# EAGLE library part WE-TPB_HV_4XL (library WE-TPB_HV)
WE-TPB HV Three-Phase Common Mode Power Line Choke Characteristics Application up to 760 VAC High permeability MnZn Ferrite or nanocrystalline core material Improved insulation through plastic case and winding spacer Patented design Specification according to EN 60938-2 Air and creepage distances ≥ 7 mm Rated current up to 46 A Attenuation up to 60 dB Suppression frequency range: 1 kHz to 20 MHz depending from used core material Operating temperature: -40 °C to +125 °C Flammability corresponding to UL 94 V-0 Climatic category: 40/125/21 Applications Power electronics Power line input filter Radio interference suppression in motors Suppression for common mode noise Frequency converter Power supplies Charging stations <https://katalog.we-online.com/media/images/v2/o84833v209%20Family_WE-TPBHV.jpg> Details see: https://katalog.we-online.com/en/pbs/WE-TPBHV Updated by Ella Wu 2019-5-31 2019 (C) Wurth Elektronik
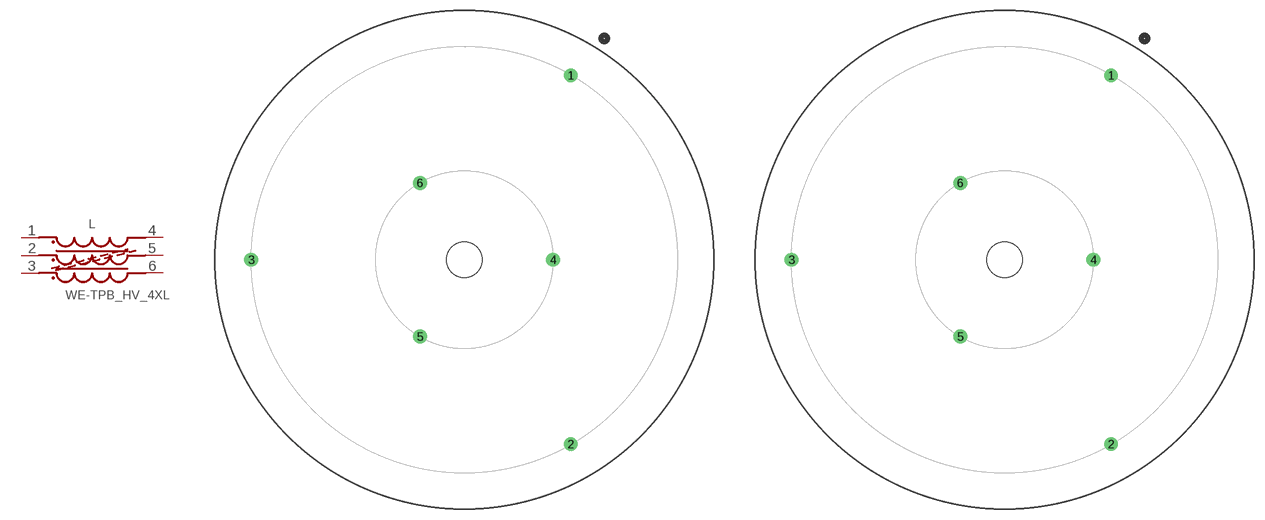
[diagram p0: symbol with the pads of WE-TPB_HV_4XL_744835150072; footprints WE-TPB_HV_4XL_744835150072, WE-TPB_HV_4XL_744839208072]

Designator prefix L

## WE-TPB_HV_4XL_744835150072 (DATASHEET-URL: https://katalog.we-online.com/pbs/datasheet/744835150072.pdf; IR: 7.2A; MOUNT: THT; PART-NUMBER: 744835150072; RDC: 85mOhm; VALUE: 15mH; VR: 760 V (AC); VT: 3000 V (AC))  [WE-TPB_HV_4XL_744835150072]
1  1  pas
2  2  pas
3  3  pas
4  4  pas
5  5  pas
6  6  pas

## WE-TPB_HV_4XL_744839208072 (DATASHEET-URL: https://katalog.we-online.com/pbs/datasheet/744839208072.pdf; IR: 7.2A; MOUNT: THT; PART-NUMBER: 744839208072; RDC: 85mOhm; VALUE: 208mH; VR: 760 V (AC); VT: 3000 V (AC))  [WE-TPB_HV_4XL_744839208072]
Pads as for WE-TPB_HV_4XL_744835150072

## WE-TPB_HV_4XL_744835090095 (DATASHEET-URL: https://katalog.we-online.com/pbs/datasheet/744835090095.pdf; IR: 9.5A; MOUNT: THT; PART-NUMBER: 744835090095; RDC: 47mOhm; VALUE: 9mH; VR: 760 V (AC); VT: 3000 V (AC))  [WE-TPB_HV_4XL_744835090095]
Pads as for WE-TPB_HV_4XL_744835150072

## WE-TPB_HV_4XL_744838480095 (DATASHEET-URL: https://katalog.we-online.com/pbs/datasheet/744838480095.pdf; IR: 9.5A; MOUNT: THT; PART-NUMBER: 744838480095; RDC: 47mOhm; VALUE: 48mH; VR: 760 V (AC); VT: 3000 V (AC))  [WE-TPB_HV_4XL_744838480095]
Pads as for WE-TPB_HV_4XL_744835150072

## WE-TPB_HV_4XL_744839125095 (DATASHEET-URL: https://katalog.we-online.com/pbs/datasheet/744839125095.pdf; IR: 9.5A; MOUNT: THT; PART-NUMBER: 744839125095; RDC: 47mOhm; VALUE: 125mH; VR: 760 V (AC); VT: 3000 V (AC))  [WE-TPB_HV_4XL_744839125095]
Pads as for WE-TPB_HV_4XL_744835150072

## WE-TPB_HV_4XL_744835050135 (DATASHEET-URL: https://katalog.we-online.com/pbs/datasheet/744835050135.pdf; IR: 13.5A; MOUNT: THT; PART-NUMBER: 744835050135; RDC: 23mOhm; VALUE: 5mH; VR: 760 V (AC); VT: 3000 V (AC))  [WE-TPB_HV_4XL_744835050135]
Pads as for WE-TPB_HV_4XL_744835150072

## WE-TPB_HV_4XL_744835034160 (DATASHEET-URL: https://katalog.we-online.com/pbs/datasheet/744835034160.pdf; IR: 16A; MOUNT: THT; PART-NUMBER: 744835034160; RDC: 14mOhm; VALUE: 3.4mH; VR: 760 V (AC); VT: 3000 V (AC))  [WE-TPB_HV_4XL_744835034160]
Pads as for WE-TPB_HV_4XL_744835150072

## WE-TPB_HV_4XL_744838180160 (DATASHEET-URL: https://katalog.we-online.com/pbs/datasheet/744838180160.pdf; IR: 16A; MOUNT: THT; PART-NUMBER: 744838180160; RDC: 14mOhm; VALUE: 18mH; VR: 760 V (AC); VT: 3000 V (AC))  [WE-TPB_HV_4XL_744838180160]
Pads as for WE-TPB_HV_4XL_744835150072

## WE-TPB_HV_4XL_744839047160 (DATASHEET-URL: https://katalog.we-online.com/pbs/datasheet/744839047160.pdf; IR: 16A; MOUNT: THT; PART-NUMBER: 744839047160; RDC: 14mOhm; VALUE: 47mH; VR: 760 V (AC); VT: 3000 V (AC))  [WE-TPB_HV_4XL_744839047160]
Pads as for WE-TPB_HV_4XL_744835150072

## WE-TPB_HV_4XL_744835021220 (DATASHEET-URL: https://katalog.we-online.com/pbs/datasheet/744835021220.pdf; IR: 22A; MOUNT: THT; PART-NUMBER: 744835021220; RDC: 9mOhm; VALUE: 2.1mH; VR: 760 V (AC); VT: 3000 V (AC))  [WE-TPB_HV_4XL_744835021220]
Pads as for WE-TPB_HV_4XL_744835150072

## WE-TPB_HV_4XL_744837018220 (DATASHEET-URL: https://katalog.we-online.com/pbs/datasheet/744837018220.pdf; IR: 22A; MOUNT: THT; PART-NUMBER: 744837018220; RDC: 9mOhm; VALUE: 1.8mH; VR: 760 V (AC); VT: 3000 V (AC))  [WE-TPB_HV_4XL_744837018220]
Pads as for WE-TPB_HV_4XL_744835150072

## WE-TPB_HV_4XL_744839029220 (DATASHEET-URL: https://katalog.we-online.com/pbs/datasheet/744839029220.pdf; IR: 22A; MOUNT: THT; PART-NUMBER: 744839029220; RDC: 9mOhm; VALUE: 29mH; VR: 760 V (AC); VT: 3000 V (AC))  [WE-TPB_HV_4XL_744839029220]
Pads as for WE-TPB_HV_4XL_744835150072

## WE-TPB_HV_4XL_744838040400 (DATASHEET-URL: https://katalog.we-online.com/pbs/datasheet/744838040400.pdf; IR: 40A; MOUNT: THT; PART-NUMBER: 744838040400; RDC: 3.2mOhm; VALUE: 4mH; VR: 760 V (AC); VT: 3000 V (AC))  [WE-TPB_HV_4XL_744838040400]
Pads as for WE-TPB_HV_4XL_744835150072

## WE-TPB_HV_4XL_744839010400 (DATASHEET-URL: https://katalog.we-online.com/pbs/datasheet/744839010400.pdf; IR: 40A; MOUNT: THT; PART-NUMBER: 744839010400; RDC: 3.2mOhm; VALUE: 10.5mH; VR: 760 V (AC); VT: 3000 V (AC))  [WE-TPB_HV_4XL_744839010400]
Pads as for WE-TPB_HV_4XL_744835150072

## WE-TPB_HV_4XL_744839003460 (DATASHEET-URL: https://katalog.we-online.com/pbs/datasheet/744839003460.pdf; IR: 46A; MOUNT: THT; PART-NUMBER: 744839003460; RDC: 1.6mOhm; VALUE: 3mH; VR: 760 V (AC); VT: 3000 V (AC))  [WE-TPB_HV_4XL_744839003460]
Pads as for WE-TPB_HV_4XL_744835150072

## WE-TPB_HV_4XL_744837010290 (DATASHEET-URL: https://katalog.we-online.com/pbs/datasheet/744837010290.pdf; IR: 29A; MOUNT: THT; PART-NUMBER: 744837010290; RDC: 5mOhm; VALUE: 1mH; VR: 760 V (AC); VT: 3000 V (AC))  [WE-TPB_HV_4XL_744837010290]
Pads as for WE-TPB_HV_4XL_744835150072

## WE-TPB_HV_4XL_744837006400 (DATASHEET-URL: https://katalog.we-online.com/pbs/datasheet/744837006400.pdf; IR: 40A; MOUNT: THT; PART-NUMBER: 744837006400; RDC: 3.2mOhm; VALUE: 0.6mH; VR: 760 V (AC); VT: 3000 V (AC))  [WE-TPB_HV_4XL_744837006400]
Pads as for WE-TPB_HV_4XL_744835150072

## WE-TPB_HV_4XL_744837002460 (DATASHEET-URL: https://katalog.we-online.com/pbs/datasheet/744837002460.pdf; IR: 46A; MOUNT: THT; PART-NUMBER: 744837002460; RDC: 1.6mOhm; VALUE: 0.2mH; VR: 760 V (AC); VT: 3000 V (AC))  [WE-TPB_HV_4XL_744837002460]
Pads as for WE-TPB_HV_4XL_744835150072

## Footprint WE-TPB_HV_4XL_744835150072 (pad centres in mm)
WE-TPB HV Three-Phase Common Mode Power Line Choke
drill 1.3: 1 15,25.981; 2 15,-25.981; 3 -30,0; 4 12.5,0; 5 -6.25,-10.825; 6 -6.25,10.825
hole 5 at 0,0

## Footprint WE-TPB_HV_4XL_744839208072 (pad centres in mm)
WE-TPB HV Three-Phase Common Mode Power Line Choke
drill 1.3: 1 15,25.981; 2 15,-25.981; 3 -30,0; 4 12.5,0; 5 -6.25,-10.825; 6 -6.25,10.825
hole 5 at 0,0

## Footprint WE-TPB_HV_4XL_744835090095 (pad centres in mm)
WE-TPB HV Three-Phase Common Mode Power Line Choke
drill 1.6: 1 15,25.981; 2 15,-25.981; 3 -30,0; 4 12.5,0; 5 -6.25,-10.825; 6 -6.25,10.825
hole 5 at 0,0

## Footprint WE-TPB_HV_4XL_744838480095 (pad centres in mm)
WE-TPB HV Three-Phase Common Mode Power Line Choke
drill 1.6: 1 15,25.981; 2 15,-25.981; 3 -30,0; 4 12.5,0; 5 -6.25,-10.825; 6 -6.25,10.825
hole 5 at 0,0

## Footprint WE-TPB_HV_4XL_744839125095 (pad centres in mm)
WE-TPB HV Three-Phase Common Mode Power Line Choke
drill 1.6: 1 15,25.981; 2 15,-25.981; 3 -30,0; 4 12.5,0; 5 -6.25,-10.825; 6 -6.25,10.825
hole 5 at 0,0

## Footprint WE-TPB_HV_4XL_744835050135 (pad centres in mm)
WE-TPB HV Three-Phase Common Mode Power Line Choke
drill 2: 1 15,25.981; 2 15,-25.981; 3 -30,0; 4 12.5,0; 5 -6.25,-10.825; 6 -6.25,10.825
hole 5 at 0,0

## Footprint WE-TPB_HV_4XL_744835034160 (pad centres in mm)
WE-TPB HV Three-Phase Common Mode Power Line Choke
drill 2.4: 1 15,25.981; 2 15,-25.981; 3 -30,0; 4 12.5,0; 5 -6.25,-10.825; 6 -6.25,10.825
hole 5 at 0,0

## Footprint WE-TPB_HV_4XL_744838180160 (pad centres in mm)
WE-TPB HV Three-Phase Common Mode Power Line Choke
drill 2.4: 1 15,25.981; 2 15,-25.981; 3 -30,0; 4 12.5,0; 5 -6.25,-10.825; 6 -6.25,10.825
hole 5 at 0,0

## Footprint WE-TPB_HV_4XL_744839047160 (pad centres in mm)
WE-TPB HV Three-Phase Common Mode Power Line Choke
drill 2.4: 1 15,25.981; 2 15,-25.981; 3 -30,0; 4 12.5,0; 5 -6.25,-10.825; 6 -6.25,10.825
hole 5 at 0,0

## Footprint WE-TPB_HV_4XL_744835021220 (pad centres in mm)
WE-TPB HV Three-Phase Common Mode Power Line Choke
drill 2.6: 1 15,25.981; 2 15,-25.981; 3 -30,0; 4 12.5,0; 5 -6.25,-10.825; 6 -6.25,10.825
hole 5 at 0,0

## Footprint WE-TPB_HV_4XL_744837018220 (pad centres in mm)
WE-TPB HV Three-Phase Common Mode Power Line Choke
drill 2.6: 1 15,25.981; 2 15,-25.981; 3 -30,0; 4 12.5,0; 5 -6.25,-10.825; 6 -6.25,10.825
hole 5 at 0,0

## Footprint WE-TPB_HV_4XL_744839029220 (pad centres in mm)
WE-TPB HV Three-Phase Common Mode Power Line Choke
drill 2.6: 1 15,25.981; 2 15,-25.981; 3 -30,0; 4 12.5,0; 5 -6.25,-10.825; 6 -6.25,10.825
hole 5 at 0,0

## Footprint WE-TPB_HV_4XL_744838040400 (pad centres in mm)
WE-TPB HV Three-Phase Common Mode Power Line Choke
drill 4.2: 1 15,25.981; 2 15,-25.981; 3 -30,0; 4 12.5,0; 5 -6.25,-10.825; 6 -6.25,10.825
hole 5 at 0,0

## Footprint WE-TPB_HV_4XL_744839010400 (pad centres in mm)
WE-TPB HV Three-Phase Common Mode Power Line Choke
drill 4.2: 1 15,25.981; 2 15,-25.981; 3 -30,0; 4 12.5,0; 5 -6.25,-10.825; 6 -6.25,10.825
hole 5 at 0,0

## Footprint WE-TPB_HV_4XL_744839003460 (pad centres in mm)
WE-TPB HV Three-Phase Common Mode Power Line Choke
drill 4.5: 1 15,25.981; 2 15,-25.981; 3 -30,0; 4 12.5,0; 5 -6.25,-10.825; 6 -6.25,10.825
hole 5 at 0,0

## Footprint WE-TPB_HV_4XL_744837010290 (pad centres in mm)
WE-TPB HV Three-Phase Common Mode Power Line Choke
drill 4: 1 15,25.981; 2 15,-25.981; 3 -30,0; 4 12.5,0; 5 -6.25,-10.825; 6 -6.25,10.825
hole 5 at 0,0

## Footprint WE-TPB_HV_4XL_744837006400 (pad centres in mm)
WE-TPB HV Three-Phase Common Mode Power Line Choke
drill 4.2: 1 15,25.981; 2 15,-25.981; 3 -30,0; 4 12.5,0; 5 -6.25,-10.825; 6 -6.25,10.825
hole 5 at 0,0

## Footprint WE-TPB_HV_4XL_744837002460 (pad centres in mm)
WE-TPB HV Three-Phase Common Mode Power Line Choke
drill 4.5: 1 15,25.981; 2 15,-25.981; 3 -30,0; 4 12.5,0; 5 -6.25,-10.825; 6 -6.25,10.825
hole 5 at 0,0